# Altium schematic symbol library AOD2610E.SchLib: 1 symbol
Pins are listed as number, name and electrical type; pins without a type are passive.

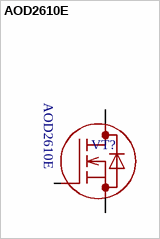
[diagram p0: symbol AOD2610E]

## AOD2610E
designator VT?
pins: 1 G, 3 S, 4 D